# Altium integrated library Linear Technology Power Management Power Control.IntLib: 661 symbols (part 26 of 43)
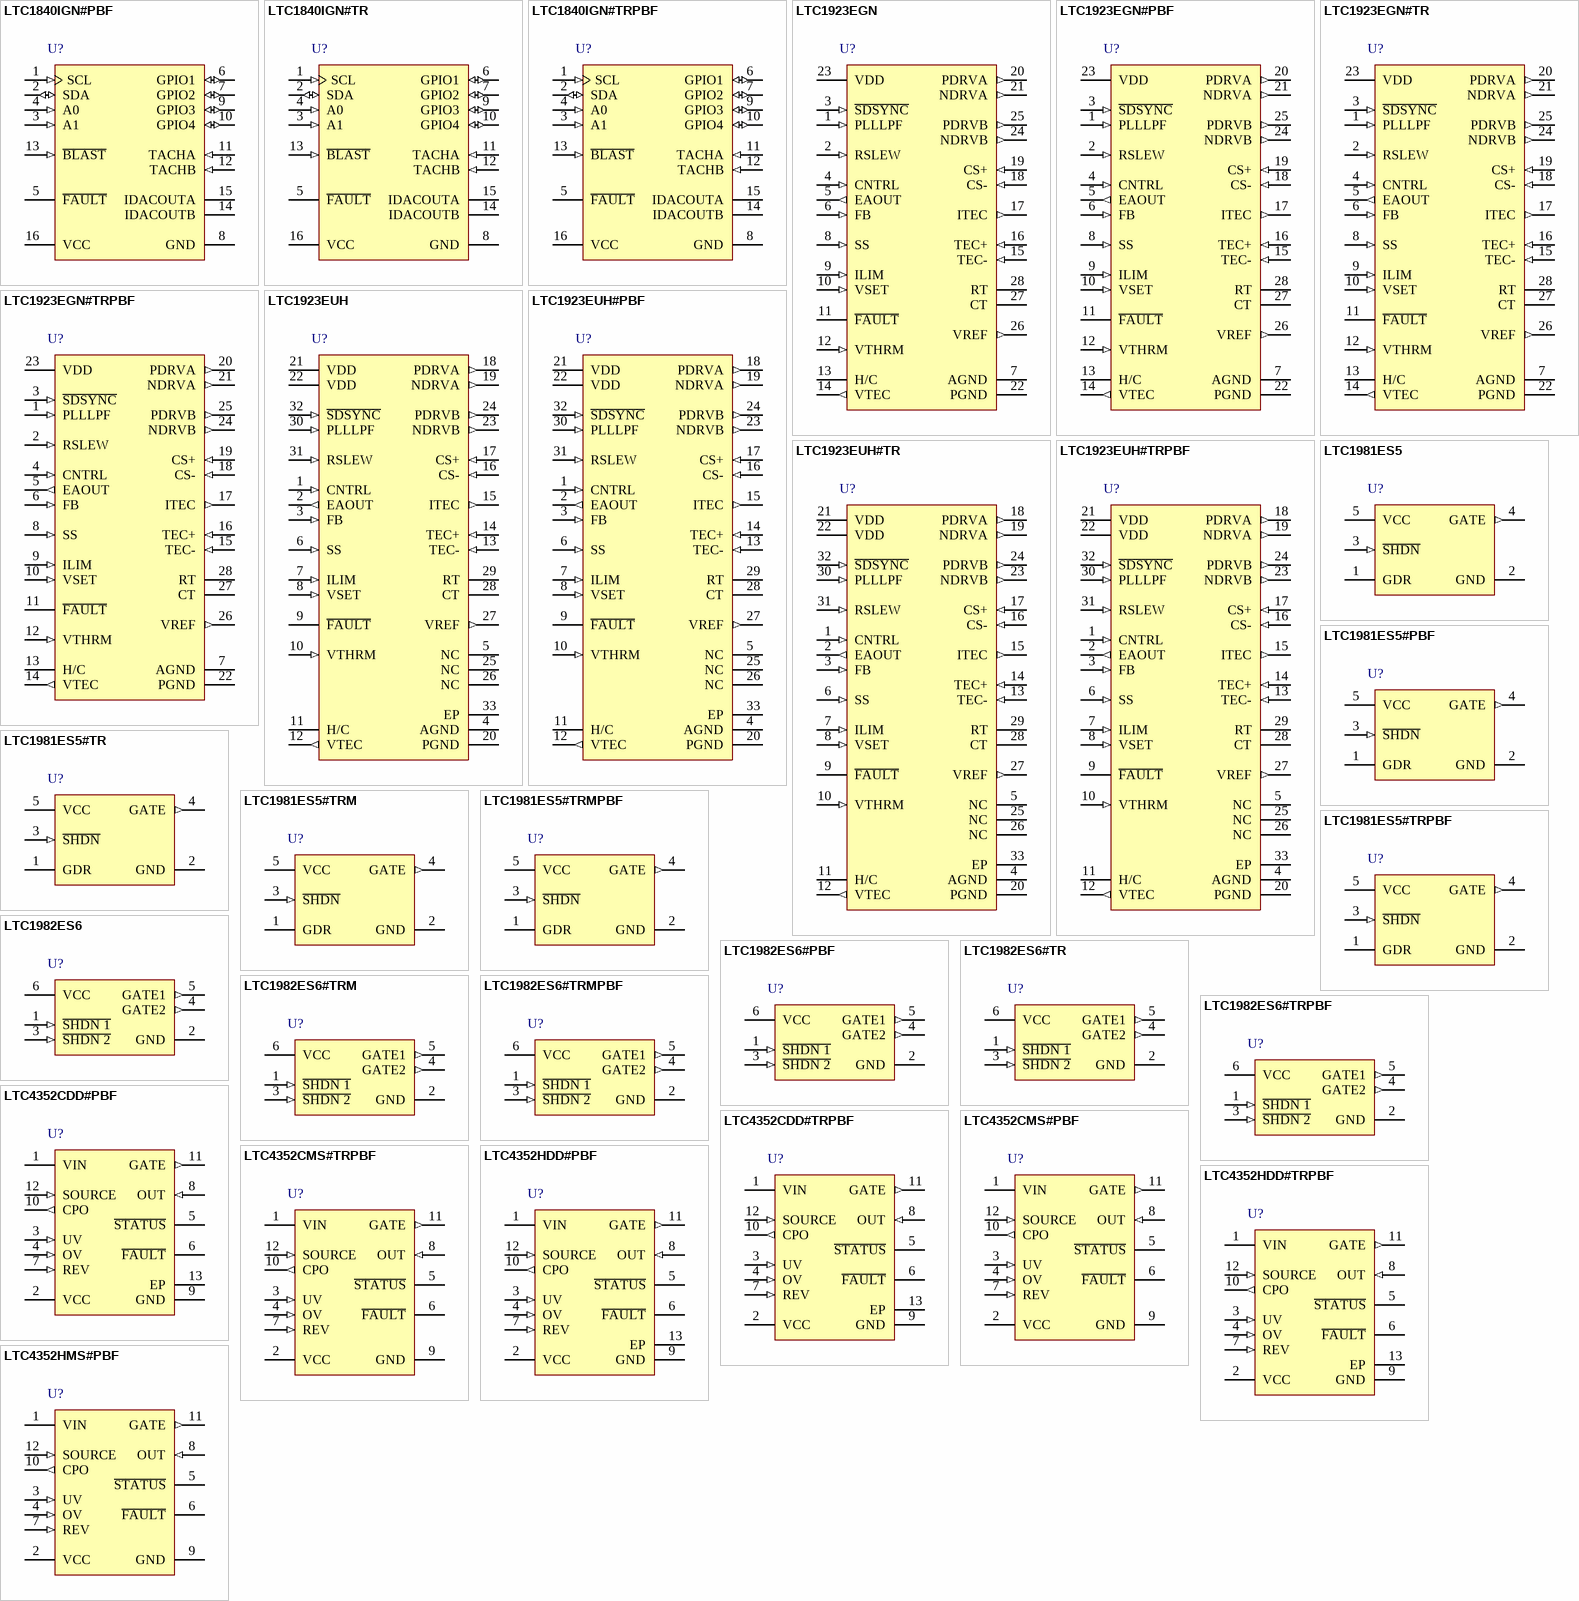
[diagram p44: symbols LTC1840IGN#PBF to LTC4352HMS#PBF]

## LTC1923EGN#TR
designator U?
High Efficiency, Low Noise Topology, 2.7 to 5.5 V Vin, 28-pin SOP (GN-28), -40 to 85 degC, Tape and Reel; Manufacturer: Linear Technology; PartNumber: LTC1923EGN#TR; PackageVersion: Rev. B, 03/2012; PackageReference: GN-28; PackageDescription: 28-Pin Plastic SSOP, Body 9.9 x 3.9 mm, Pitch 0.635 mm; Supplier 1: Digi-Key; Supplier Part Number 1: LTC1923EGN#TR-ND; Packing: Tape and Reel; RoHS: FALSE; Mounting Technology: Surface Mount; ComponentLink1Description: Manufacturer URL; ComponentLink1URL: http://www.linear.com/; ComponentLink2Description: Datasheet; ComponentLink2URL: http://cds.linear.com/docs/en/datasheet/1923f.pdf; ComponentLink3Description: Package Specification; ComponentLink3URL: http://cds.linear.com/docs/en/packaging/05081641_B_GN28.pdf
footprint LT-GN-28_N (SOP, 28-Leads, Body 9.98x3.98mm, Pitch 0.635mm, IPC Medium Density)
footprint LT-GN-28_L (SOP, 28-Leads, Body 9.98x3.98mm, Pitch 0.635mm, IPC High Density)
footprint LT-GN-28_M (SOP, 28-Leads, Body 9.98x3.98mm, Pitch 0.635mm, IPC Low Density)
pins: 1 PLLLPF (in) "This pin serves as the lowpass filter for the phase-locked loop when the part is being synchronized. The average voltage on this pin equally alters both the oscillator charge and discharge currents, thereby changing the (See Datasheet)", 2 RSLEW (in) "Placing a resistor from this pin to AGND sets the voltage slew rate of the output driver pins. The minimum resistor value is 10k and the maximum value is 300k. Slew rate limiting can be disabled by tying this pin to VDD, (See Datasheet)", 3 ~{SDSYNC} (in) "This pin can be used to disable the IC, synchronize the internal oscillator or be the master to synchronize other devices. Grounding this pin will disable all internal circuitry and cause NDRVA and NDRVB to be forced low and (See Datasheet)", 4 CNTRL (in) "Noninverting Input to the Error Amplifier.", 5 EAOUT (out) "Output of the Error Amplifier. The loop compensation network is connected between this pin and FB. The voltage on this pin is the input to the PWM comparator and commands anywhere between 0% and 100% duty cycle to control (See Datasheet)", 6 FB (in) "The Inverting Input to the Error Amplifier. This input is connected to EAOUT through a compensating feedback network.", 7 AGND (power) "Signal Ground. All voltages are measured with respect to AGND. Bypass VDD and VREF with low ESR capacitors to the ground plane near this pin", 8 SS (in) "The TEC current can be soft-started by adding a capacitor from this pin to ground. This capacitor will be charged by a 1.5 uA current source. This pin connects to one of the inverting inputs of the current limit comparator (See Datasheet)", 9 ILIM (in) "A voltage divider from VREF to this pin sets the current limit threshold for the TEC. If the voltage on this pin is set higher than 1V, then ILIMIT = 150mV/RS as that is the internal current limit comparator level. If the (See Datasheet)", 10 VSET (in) "This is the input for the setpoint reference of the temperature sense element divider network or bridge. This pin must be connected to the bias source for the thermistor divider network", 11 ~{FAULT} (oc) "Open-drain output that indicates by pulling low when the voltage on VTHRM is outside the specified window, the part is in shutdown, undervoltage lockout (UVLO), or the reference is not good. When the voltage on VTHRM is (See Datasheet)", 12 VTHRM (in) "Voltage Across the Thermistor. If the voltage on this pin is outside the range between 410mV below VSET and 0.2 • VSET, the F\A\U\L\T\ pin will be asserted (and latched) low indicating that the thermistor temperature ha(See Datasheet)", 13 H/C (oc) "This open-drain output provides the direction information of the TEC current flow. If TEC+ is greater than TEC-, which typically corresponds to the system cooling, this output will be a logic low. If the opposite is the (See Datasheet)", 14 VTEC (out) "Output of the differential TEC voltage amplifier equal to the magnitude of the voltage across the TEC.", 15 TEC- (in) "Inverting Input to the Differential TEC Voltage Amplifier. This amplifier has a fixed gain of 1 with its output being the voltage across the TEC with respect to AGND. This input, along with TEC+, signifies whether the TEC is (See Datasheet)", 16 TEC+ (in) "Noninverting Input to the Differential TEC Voltage Amplifier.", 17 ITEC (out) "Output of the Differential Current Sense Amplifier. The voltage on this pin is equal to 10 • (ITEC + IRIPPLE) • RS, where ITEC is the thermoelectric cooler current, IRIPPLE is the inductor ripple current and RS is (See Datasheet)", 18 CS- (in) "Inverting Input to the Differential Current Sense Amplifier.", 19 CS+ (in) "Noninverting Input of the Differential Current Sense Amplifier. The amplifier has a fixed gain of 10.", 20 PDRVA (out) "These pushpull outputs are configured to drive the opposite high side PMOS switches in a full-bridge arrangement.", 21 NDRVA (out) "These pushpull outputs are configured to drive the opposite low side switches in a full-bridge arrangement.", 22 PGND (power) "This is the high current ground for the IC. The external current sense resistor should be referenced to this point.", 23 VDD (power) "Positive Supply Rail for the IC. Bypass this pin to PGND and AGND with >10uF low ESL, ESR ceramic capacitors. The turn on voltage level for VDD is 2.6V with 130mV of hysteresis.", 24 NDRVB (out) "These pushpull outputs are configured to drive the opposite low side switches in a full-bridge arrangement.", 25 PDRVB (out) "These pushpull outputs are configured to drive the opposite high side PMOS switches in a full-bridge arrangement.", 26 VREF (out) "This is the output of the Reference. This pin should be bypassed to GND with a 1uF ceramic capacitor. The reference is able to supply a minimum of 10mA of current and is internally short-circuit current limited", 27 CT "The triangular wave oscillator timing capacitor pin is used in conjunction with RT to set the oscillator frequency.", 28 RT "A single resistor from RT to AGND sets the charging and discharging currents for the triangle oscillator. This pin also sets the dead time between turning one set of outputs off and turning the other set on to ensure the (See Datasheet)"

## LTC1923EGN#TRPBF
designator U?
High Efficiency, Low Noise Topology, 2.7 to 5.5 V Vin, 28-pin SOP (GN-28), -40 to 85 degC, Pb-Free, Tape and Reel; Manufacturer: Linear Technology; PartNumber: LTC1923EGN#TRPBF; PackageVersion: Rev. B, 03/2012; PackageReference: GN-28; PackageDescription: 28-Pin Plastic SSOP, Body 9.9 x 3.9 mm, Pitch 0.635 mm; Supplier 1: Digi-Key; Supplier Part Number 1: LTC1923EGN#TRPBF-ND; Packing: Tape and Reel; RoHS: TRUE; Mounting Technology: Surface Mount; ComponentLink1Description: Manufacturer URL; ComponentLink1URL: http://www.linear.com/; ComponentLink2Description: Datasheet; ComponentLink2URL: http://cds.linear.com/docs/en/datasheet/1923f.pdf; ComponentLink3Description: Package Specification; ComponentLink3URL: http://cds.linear.com/docs/en/packaging/05081641_B_GN28.pdf
footprint LT-GN-28_N (SOP, 28-Leads, Body 9.98x3.98mm, Pitch 0.635mm, IPC Medium Density)
footprint LT-GN-28_L (SOP, 28-Leads, Body 9.98x3.98mm, Pitch 0.635mm, IPC High Density)
footprint LT-GN-28_M (SOP, 28-Leads, Body 9.98x3.98mm, Pitch 0.635mm, IPC Low Density)
pins: 1 PLLLPF (in) "This pin serves as the lowpass filter for the phase-locked loop when the part is being synchronized. The average voltage on this pin equally alters both the oscillator charge and discharge currents, thereby changing the (See Datasheet)", 2 RSLEW (in) "Placing a resistor from this pin to AGND sets the voltage slew rate of the output driver pins. The minimum resistor value is 10k and the maximum value is 300k. Slew rate limiting can be disabled by tying this pin to VDD, (See Datasheet)", 3 ~{SDSYNC} (in) "This pin can be used to disable the IC, synchronize the internal oscillator or be the master to synchronize other devices. Grounding this pin will disable all internal circuitry and cause NDRVA and NDRVB to be forced low and (See Datasheet)", 4 CNTRL (in) "Noninverting Input to the Error Amplifier.", 5 EAOUT (out) "Output of the Error Amplifier. The loop compensation network is connected between this pin and FB. The voltage on this pin is the input to the PWM comparator and commands anywhere between 0% and 100% duty cycle to control (See Datasheet)", 6 FB (in) "The Inverting Input to the Error Amplifier. This input is connected to EAOUT through a compensating feedback network.", 7 AGND (power) "Signal Ground. All voltages are measured with respect to AGND. Bypass VDD and VREF with low ESR capacitors to the ground plane near this pin", 8 SS (in) "The TEC current can be soft-started by adding a capacitor from this pin to ground. This capacitor will be charged by a 1.5 uA current source. This pin connects to one of the inverting inputs of the current limit comparator (See Datasheet)", 9 ILIM (in) "A voltage divider from VREF to this pin sets the current limit threshold for the TEC. If the voltage on this pin is set higher than 1V, then ILIMIT = 150mV/RS as that is the internal current limit comparator level. If the (See Datasheet)", 10 VSET (in) "This is the input for the setpoint reference of the temperature sense element divider network or bridge. This pin must be connected to the bias source for the thermistor divider network", 11 ~{FAULT} (oc) "Open-drain output that indicates by pulling low when the voltage on VTHRM is outside the specified window, the part is in shutdown, undervoltage lockout (UVLO), or the reference is not good. When the voltage on VTHRM is (See Datasheet)", 12 VTHRM (in) "Voltage Across the Thermistor. If the voltage on this pin is outside the range between 410mV below VSET and 0.2 • VSET, the F\A\U\L\T\ pin will be asserted (and latched) low indicating that the thermistor temperature ha(See Datasheet)", 13 H/C (oc) "This open-drain output provides the direction information of the TEC current flow. If TEC+ is greater than TEC-, which typically corresponds to the system cooling, this output will be a logic low. If the opposite is the (See Datasheet)", 14 VTEC (out) "Output of the differential TEC voltage amplifier equal to the magnitude of the voltage across the TEC.", 15 TEC- (in) "Inverting Input to the Differential TEC Voltage Amplifier. This amplifier has a fixed gain of 1 with its output being the voltage across the TEC with respect to AGND. This input, along with TEC+, signifies whether the TEC is (See Datasheet)", 16 TEC+ (in) "Noninverting Input to the Differential TEC Voltage Amplifier.", 17 ITEC (out) "Output of the Differential Current Sense Amplifier. The voltage on this pin is equal to 10 • (ITEC + IRIPPLE) • RS, where ITEC is the thermoelectric cooler current, IRIPPLE is the inductor ripple current and RS is (See Datasheet)", 18 CS- (in) "Inverting Input to the Differential Current Sense Amplifier.", 19 CS+ (in) "Noninverting Input of the Differential Current Sense Amplifier. The amplifier has a fixed gain of 10.", 20 PDRVA (out) "These pushpull outputs are configured to drive the opposite high side PMOS switches in a full-bridge arrangement.", 21 NDRVA (out) "These pushpull outputs are configured to drive the opposite low side switches in a full-bridge arrangement.", 22 PGND (power) "This is the high current ground for the IC. The external current sense resistor should be referenced to this point.", 23 VDD (power) "Positive Supply Rail for the IC. Bypass this pin to PGND and AGND with >10uF low ESL, ESR ceramic capacitors. The turn on voltage level for VDD is 2.6V with 130mV of hysteresis.", 24 NDRVB (out) "These pushpull outputs are configured to drive the opposite low side switches in a full-bridge arrangement.", 25 PDRVB (out) "These pushpull outputs are configured to drive the opposite high side PMOS switches in a full-bridge arrangement.", 26 VREF (out) "This is the output of the Reference. This pin should be bypassed to GND with a 1uF ceramic capacitor. The reference is able to supply a minimum of 10mA of current and is internally short-circuit current limited", 27 CT "The triangular wave oscillator timing capacitor pin is used in conjunction with RT to set the oscillator frequency.", 28 RT "A single resistor from RT to AGND sets the charging and discharging currents for the triangle oscillator. This pin also sets the dead time between turning one set of outputs off and turning the other set on to ensure the (See Datasheet)"

## LTC1923EUH
designator U?
High Efficiency, Low Noise Topology, 2.7 to 5.5 V Vin, 32-pin QFN (UH-32), -40 to 85 degC; Manufacturer: Linear Technology; PartNumber: LTC1923EUH; PackageVersion: Rev. D, 06/2010; PackageReference: UH-32; PackageDescription: 32-Pin Plastic QFN, Body 5 x 5 mm, Pitch 0.5 mm; Supplier 1: Digi-Key; Supplier Part Number 1: LTC1923EUH-ND; RoHS: FALSE; Mounting Technology: Surface Mount; Code_JEDEC: MO-220; ComponentLink1Description: Manufacturer URL; ComponentLink1URL: http://www.linear.com/; ComponentLink2Description: Datasheet; ComponentLink2URL: http://cds.linear.com/docs/en/datasheet/1923f.pdf; ComponentLink3Description: Package Specification; ComponentLink3URL: http://cds.linear.com/docs/en/packaging/QFN_32_05-08-1693.pdf
footprint LT-UH-32_N (QFN, 32-Leads, Body 5.1x5.1mm, Pitch 0.5mm, Thermal Pad 3.45X3.45mm, IPC Medium Density)
footprint LT-UH-32_L (QFN, 32-Leads, Body 5.1x5.1mm, Pitch 0.5mm, Thermal Pad 3.45X3.45mm, IPC High Density)
footprint LT-UH-32_M (QFN, 32-Leads, Body 5.1x5.1mm, Pitch 0.5mm, Thermal Pad 3.45X3.45mm, IPC Low Density)
pins: 1 CNTRL (in) "Noninverting Input to the Error Amplifier.", 2 EAOUT (out) "Output of the Error Amplifier. The loop compensation network is connected between this pin and FB. The voltage on this pin is the input to the PWM comparator and commands anywhere between 0% and 100% duty cycle to control (See Datasheet)", 3 FB (in) "The Inverting Input to the Error Amplifier. This input is connected to EAOUT through a compensating feedback network.", 4 AGND (power) "Signal Ground. All voltages are measured with respect to AGND. Bypass VDD and VREF with low ESR capacitors to the ground plane near this pin.", 5 NC, 6 SS (in) "The TEC current can be soft-started by adding a capacitor from this pin to ground. This capacitor will be charged by a 1.5 uA current source. This pin connects to one of the inverting inputs of the current limit compara- tor (See Datasheet)", 7 ILIM (in) "A voltage divider from VREF to this pin sets the current limit threshold for the TEC. If the voltage on this pin is set higher than 1 V, then I LIMIT = 150 mV/R S as that is the internal current limit comparator level.", 8 VSET (in) "This is the input for the setpoint reference of the temperature sense element divider net- work or bridge. This pin must be connected to the bias source for the thermistor divider network.", 9 ~{FAULT} (oc) "Open-drain output that indicates by pulling low when the voltage on VTHRM is outside the specified window, the part is in shutdown, undervoltage lockout (UVLO), or the reference is not good. When the voltage on VTHRM is (See Datasheet)", 10 VTHRM (in) "Voltage Across the Thermistor. If the voltage on this pin is outside the range between 410 mV below VSET and 0.2 • VSET , the F\A\U\L\T\ pin will be asserted (and latched) low indicating that the thermistor temperature ha(See Datasheet)", 11 H/C (oc) "This open-drain output provides the direction information of the TEC current flow. If TEC+ is greater than TEC- , which typically corresponds to the system cooling, this output will be a logic low. If the opposite is the (See Datasheet)", 12 VTEC (out) "Output of the differential TEC voltage amplifier equal to the magnitude of the voltage across the TEC.", 13 TEC- (in) "Inverting Input to the Differential TEC Voltage Amplifier. This amplifier has a fixed gain of 1 with its output being the voltage across the TEC with respect to AGND. This input, along with TEC+ , signifies whether the TEC (See Datasheet)", 14 TEC+ (in) "Noninverting Input to the Differen- tial TEC Voltage Amplifier.", 15 ITEC (out) "Output of the Differential Current Sense Amplifier.", 16 CS- (in) "Inverting Input to the Differential Current Sense Amplifier.", 17 CS+ (in) "Noninverting Input of the Differential Current Sense Amplifier. The amplifier has a fixed gain of 10.", 18 PDRVA (out) "These push- pull outputs are configured to drive the opposite high side PMOS switches in a full-bridge arrangement.", 19 NDRVA (out) "These push- pull outputs are configured to drive the opposite low side switches in a full-bridge arrangement.", 20 PGND (power) "This is the high current ground for the IC. The external current sense resistor should be referenced to this point.", 21 VDD (power) "Positive Supply Rail for the IC. Bypass this pin to PGND and AGND with >10 uF low ESL, ESR ceramic capacitors. The turn on voltage level for VDD is 2.6 V with 130 mV of hysteresis.", 22 VDD (power) "Positive Supply Rail for the IC. Bypass this pin to PGND and AGND with >10 uF low ESL, ESR ceramic capacitors. The turn on voltage level for VDD is 2.6 V with 130 mV of hysteresis.", 23 NDRVB (out) "These push- pull outputs are configured to drive the opposite low side switches in a full-bridge arrangement.", 24 PDRVB (out) "These push- pull outputs are configured to drive the opposite high side PMOS switches in a full-bridge arrangement.", 25 NC, 26 NC, 27 VREF (out) "This is the output of the Reference. This pin should be bypassed to GND with a 1 uF ceramic capacitor. The reference is able to supply a minimum of 10 mA of current and is internally short-circuit current limited.", 28 CT "The triangular wave oscillator timing capacitor pin is used in conjunction with R T to set the oscillator frequency.", 29 RT "A single resistor from RT to AGND sets the charging and discharging currents for the triangle oscillator. This pin also sets the dead time between turning one set of outputs off and turning the other set on to ensure the (See Datasheet)", 30 PLLLPF (in) "This pin serves as the lowpass filter for the phase-locked loop when the part is being synchronized.", 31 RSLEW (in) "Placing a resistor from this pin to AGND sets the voltage slew rate of the output driver pins. The minimum resistor value is 10 k and the maximum value is 300 k. Slew rate limiting can be disabled by tying this pin to VDD , (See Datasheet)", 32 ~{SDSYNC} (in) "This pin can be used to disable the IC, synchronize the internal oscillator or be the master to synchronize other devices. Grounding this pin will disable all internal circuitry and cause NDRVA and NDRVB to be forced low and (See Datasheet)", 33 EP (power)

## LTC1923EUH#PBF
designator U?
High Efficiency, Low Noise Topology, 2.7 to 5.5 V Vin, 32-pin QFN (UH-32), -40 to 85 degC, Pb-Free; Manufacturer: Linear Technology; PartNumber: LTC1923EUH#PBF; PackageVersion: Rev. D, 06/2010; PackageReference: UH-32; PackageDescription: 32-Pin Plastic QFN, Body 5 x 5 mm, Pitch 0.5 mm; Supplier 1: Digi-Key; Supplier Part Number 1: LTC1923EUH#PBF-ND; Supplier 2: Farnell; Supplier Part Number 2: 2295517; Supplier 3: Newark; Supplier Part Number 3: 56M4352; RoHS: TRUE; Mounting Technology: Surface Mount; Code_JEDEC: MO-220; ComponentLink1Description: Manufacturer URL; ComponentLink1URL: http://www.linear.com/; ComponentLink2Description: Datasheet; ComponentLink2URL: http://cds.linear.com/docs/en/datasheet/1923f.pdf; ComponentLink3Description: Package Specification; ComponentLink3URL: http://cds.linear.com/docs/en/packaging/QFN_32_05-08-1693.pdf
footprint LT-UH-32_N (QFN, 32-Leads, Body 5.1x5.1mm, Pitch 0.5mm, Thermal Pad 3.45X3.45mm, IPC Medium Density)
footprint LT-UH-32_L (QFN, 32-Leads, Body 5.1x5.1mm, Pitch 0.5mm, Thermal Pad 3.45X3.45mm, IPC High Density)
footprint LT-UH-32_M (QFN, 32-Leads, Body 5.1x5.1mm, Pitch 0.5mm, Thermal Pad 3.45X3.45mm, IPC Low Density)
pins: 1 CNTRL (in) "Noninverting Input to the Error Amplifier.", 2 EAOUT (out) "Output of the Error Amplifier. The loop compensation network is connected between this pin and FB. The voltage on this pin is the input to the PWM comparator and commands anywhere between 0% and 100% duty cycle to control (See Datasheet)", 3 FB (in) "The Inverting Input to the Error Amplifier. This input is connected to EAOUT through a compensating feedback network.", 4 AGND (power) "Signal Ground. All voltages are measured with respect to AGND. Bypass VDD and VREF with low ESR capacitors to the ground plane near this pin.", 5 NC, 6 SS (in) "The TEC current can be soft-started by adding a capacitor from this pin to ground. This capacitor will be charged by a 1.5 uA current source. This pin connects to one of the inverting inputs of the current limit compara- tor (See Datasheet)", 7 ILIM (in) "A voltage divider from VREF to this pin sets the current limit threshold for the TEC. If the voltage on this pin is set higher than 1 V, then I LIMIT = 150 mV/R S as that is the internal current limit comparator level.", 8 VSET (in) "This is the input for the setpoint reference of the temperature sense element divider net- work or bridge. This pin must be connected to the bias source for the thermistor divider network.", 9 ~{FAULT} (oc) "Open-drain output that indicates by pulling low when the voltage on VTHRM is outside the specified window, the part is in shutdown, undervoltage lockout (UVLO), or the reference is not good. When the voltage on VTHRM is (See Datasheet)", 10 VTHRM (in) "Voltage Across the Thermistor. If the voltage on this pin is outside the range between 410 mV below VSET and 0.2 • VSET , the F\A\U\L\T\ pin will be asserted (and latched) low indicating that the thermistor temperature ha(See Datasheet)", 11 H/C (oc) "This open-drain output provides the direction information of the TEC current flow. If TEC+ is greater than TEC- , which typically corresponds to the system cooling, this output will be a logic low. If the opposite is the (See Datasheet)", 12 VTEC (out) "Output of the differential TEC voltage amplifier equal to the magnitude of the voltage across the TEC.", 13 TEC- (in) "Inverting Input to the Differential TEC Voltage Amplifier. This amplifier has a fixed gain of 1 with its output being the voltage across the TEC with respect to AGND. This input, along with TEC+ , signifies whether the TEC (See Datasheet)", 14 TEC+ (in) "Noninverting Input to the Differen- tial TEC Voltage Amplifier.", 15 ITEC (out) "Output of the Differential Current Sense Amplifier.", 16 CS- (in) "Inverting Input to the Differential Current Sense Amplifier.", 17 CS+ (in) "Noninverting Input of the Differential Current Sense Amplifier. The amplifier has a fixed gain of 10.", 18 PDRVA (out) "These push- pull outputs are configured to drive the opposite high side PMOS switches in a full-bridge arrangement.", 19 NDRVA (out) "These push- pull outputs are configured to drive the opposite low side switches in a full-bridge arrangement.", 20 PGND (power) "This is the high current ground for the IC. The external current sense resistor should be referenced to this point.", 21 VDD (power) "Positive Supply Rail for the IC. Bypass this pin to PGND and AGND with >10 uF low ESL, ESR ceramic capacitors. The turn on voltage level for VDD is 2.6 V with 130 mV of hysteresis.", 22 VDD (power) "Positive Supply Rail for the IC. Bypass this pin to PGND and AGND with >10 uF low ESL, ESR ceramic capacitors. The turn on voltage level for VDD is 2.6 V with 130 mV of hysteresis.", 23 NDRVB (out) "These push- pull outputs are configured to drive the opposite low side switches in a full-bridge arrangement.", 24 PDRVB (out) "These push- pull outputs are configured to drive the opposite high side PMOS switches in a full-bridge arrangement.", 25 NC, 26 NC, 27 VREF (out) "This is the output of the Reference. This pin should be bypassed to GND with a 1 uF ceramic capacitor. The reference is able to supply a minimum of 10 mA of current and is internally short-circuit current limited.", 28 CT "The triangular wave oscillator timing capacitor pin is used in conjunction with R T to set the oscillator frequency.", 29 RT "A single resistor from RT to AGND sets the charging and discharging currents for the triangle oscillator. This pin also sets the dead time between turning one set of outputs off and turning the other set on to ensure the (See Datasheet)", 30 PLLLPF (in) "This pin serves as the lowpass filter for the phase-locked loop when the part is being synchronized.", 31 RSLEW (in) "Placing a resistor from this pin to AGND sets the voltage slew rate of the output driver pins. The minimum resistor value is 10 k and the maximum value is 300 k. Slew rate limiting can be disabled by tying this pin to VDD , (See Datasheet)", 32 ~{SDSYNC} (in) "This pin can be used to disable the IC, synchronize the internal oscillator or be the master to synchronize other devices. Grounding this pin will disable all internal circuitry and cause NDRVA and NDRVB to be forced low and (See Datasheet)", 33 EP (power)

## LTC1923EUH#TR
designator U?
High Efficiency, Low Noise Topology, 2.7 to 5.5 V Vin, 32-pin QFN (UH-32), -40 to 85 degC, Tape and Reel; Manufacturer: Linear Technology; PartNumber: LTC1923EUH#TR; PackageVersion: Rev. D, 06/2010; PackageReference: UH-32; PackageDescription: 32-Pin Plastic QFN, Body 5 x 5 mm, Pitch 0.5 mm; Supplier 1: Digi-Key; Supplier Part Number 1: LTC1923EUHTR-ND; Packing: Tape and Reel; RoHS: FALSE; Mounting Technology: Surface Mount; Code_JEDEC: MO-220; ComponentLink1Description: Manufacturer URL; ComponentLink1URL: http://www.linear.com/; ComponentLink2Description: Datasheet; ComponentLink2URL: http://cds.linear.com/docs/en/datasheet/1923f.pdf; ComponentLink3Description: Package Specification; ComponentLink3URL: http://cds.linear.com/docs/en/packaging/QFN_32_05-08-1693.pdf
footprint LT-UH-32_N (QFN, 32-Leads, Body 5.1x5.1mm, Pitch 0.5mm, Thermal Pad 3.45X3.45mm, IPC Medium Density)
footprint LT-UH-32_L (QFN, 32-Leads, Body 5.1x5.1mm, Pitch 0.5mm, Thermal Pad 3.45X3.45mm, IPC High Density)
footprint LT-UH-32_M (QFN, 32-Leads, Body 5.1x5.1mm, Pitch 0.5mm, Thermal Pad 3.45X3.45mm, IPC Low Density)
pins: 1 CNTRL (in) "Noninverting Input to the Error Amplifier.", 2 EAOUT (out) "Output of the Error Amplifier. The loop compensation network is connected between this pin and FB. The voltage on this pin is the input to the PWM comparator and commands anywhere between 0% and 100% duty cycle to control (See Datasheet)", 3 FB (in) "The Inverting Input to the Error Amplifier. This input is connected to EAOUT through a compensating feedback network.", 4 AGND (power) "Signal Ground. All voltages are measured with respect to AGND. Bypass VDD and VREF with low ESR capacitors to the ground plane near this pin.", 5 NC, 6 SS (in) "The TEC current can be soft-started by adding a capacitor from this pin to ground. This capacitor will be charged by a 1.5 uA current source. This pin connects to one of the inverting inputs of the current limit compara- tor (See Datasheet)", 7 ILIM (in) "A voltage divider from VREF to this pin sets the current limit threshold for the TEC. If the voltage on this pin is set higher than 1 V, then I LIMIT = 150 mV/R S as that is the internal current limit comparator level.", 8 VSET (in) "This is the input for the setpoint reference of the temperature sense element divider net- work or bridge. This pin must be connected to the bias source for the thermistor divider network.", 9 ~{FAULT} (oc) "Open-drain output that indicates by pulling low when the voltage on VTHRM is outside the specified window, the part is in shutdown, undervoltage lockout (UVLO), or the reference is not good. When the voltage on VTHRM is (See Datasheet)", 10 VTHRM (in) "Voltage Across the Thermistor. If the voltage on this pin is outside the range between 410 mV below VSET and 0.2 • VSET , the F\A\U\L\T\ pin will be asserted (and latched) low indicating that the thermistor temperature ha(See Datasheet)", 11 H/C (oc) "This open-drain output provides the direction information of the TEC current flow. If TEC+ is greater than TEC- , which typically corresponds to the system cooling, this output will be a logic low. If the opposite is the (See Datasheet)", 12 VTEC (out) "Output of the differential TEC voltage amplifier equal to the magnitude of the voltage across the TEC.", 13 TEC- (in) "Inverting Input to the Differential TEC Voltage Amplifier. This amplifier has a fixed gain of 1 with its output being the voltage across the TEC with respect to AGND. This input, along with TEC+ , signifies whether the TEC (See Datasheet)", 14 TEC+ (in) "Noninverting Input to the Differen- tial TEC Voltage Amplifier.", 15 ITEC (out) "Output of the Differential Current Sense Amplifier.", 16 CS- (in) "Inverting Input to the Differential Current Sense Amplifier.", 17 CS+ (in) "Noninverting Input of the Differential Current Sense Amplifier. The amplifier has a fixed gain of 10.", 18 PDRVA (out) "These push- pull outputs are configured to drive the opposite high side PMOS switches in a full-bridge arrangement.", 19 NDRVA (out) "These push- pull outputs are configured to drive the opposite low side switches in a full-bridge arrangement.", 20 PGND (power) "This is the high current ground for the IC. The external current sense resistor should be referenced to this point.", 21 VDD (power) "Positive Supply Rail for the IC. Bypass this pin to PGND and AGND with >10 uF low ESL, ESR ceramic capacitors. The turn on voltage level for VDD is 2.6 V with 130 mV of hysteresis.", 22 VDD (power) "Positive Supply Rail for the IC. Bypass this pin to PGND and AGND with >10 uF low ESL, ESR ceramic capacitors. The turn on voltage level for VDD is 2.6 V with 130 mV of hysteresis.", 23 NDRVB (out) "These push- pull outputs are configured to drive the opposite low side switches in a full-bridge arrangement.", 24 PDRVB (out) "These push- pull outputs are configured to drive the opposite high side PMOS switches in a full-bridge arrangement.", 25 NC, 26 NC, 27 VREF (out) "This is the output of the Reference. This pin should be bypassed to GND with a 1 uF ceramic capacitor. The reference is able to supply a minimum of 10 mA of current and is internally short-circuit current limited.", 28 CT "The triangular wave oscillator timing capacitor pin is used in conjunction with R T to set the oscillator frequency.", 29 RT "A single resistor from RT to AGND sets the charging and discharging currents for the triangle oscillator. This pin also sets the dead time between turning one set of outputs off and turning the other set on to ensure the (See Datasheet)", 30 PLLLPF (in) "This pin serves as the lowpass filter for the phase-locked loop when the part is being synchronized.", 31 RSLEW (in) "Placing a resistor from this pin to AGND sets the voltage slew rate of the output driver pins. The minimum resistor value is 10 k and the maximum value is 300 k. Slew rate limiting can be disabled by tying this pin to VDD , (See Datasheet)", 32 ~{SDSYNC} (in) "This pin can be used to disable the IC, synchronize the internal oscillator or be the master to synchronize other devices. Grounding this pin will disable all internal circuitry and cause NDRVA and NDRVB to be forced low and (See Datasheet)", 33 EP (power)

## LTC1923EUH#TRPBF
designator U?
High Efficiency, Low Noise Topology, 2.7 to 5.5 V Vin, 32-pin QFN (UH-32), -40 to 85 degC, Pb-Free, Tape and Reel; Manufacturer: Linear Technology; PartNumber: LTC1923EUH#TRPBF; PackageVersion: Rev. D, 06/2010; PackageReference: UH-32; PackageDescription: 32-Pin Plastic QFN, Body 5 x 5 mm, Pitch 0.5 mm; Supplier 1: Digi-Key; Supplier Part Number 1: LTC1923EUH#TRPBF-ND; Packing: Tape and Reel; RoHS: TRUE; Mounting Technology: Surface Mount; Code_JEDEC: MO-220; ComponentLink1Description: Manufacturer URL; ComponentLink1URL: http://www.linear.com/; ComponentLink2Description: Datasheet; ComponentLink2URL: http://cds.linear.com/docs/en/datasheet/1923f.pdf; ComponentLink3Description: Package Specification; ComponentLink3URL: http://cds.linear.com/docs/en/packaging/QFN_32_05-08-1693.pdf
footprint LT-UH-32_N (QFN, 32-Leads, Body 5.1x5.1mm, Pitch 0.5mm, Thermal Pad 3.45X3.45mm, IPC Medium Density)
footprint LT-UH-32_L (QFN, 32-Leads, Body 5.1x5.1mm, Pitch 0.5mm, Thermal Pad 3.45X3.45mm, IPC High Density)
footprint LT-UH-32_M (QFN, 32-Leads, Body 5.1x5.1mm, Pitch 0.5mm, Thermal Pad 3.45X3.45mm, IPC Low Density)
pins: 1 CNTRL (in) "Noninverting Input to the Error Amplifier.", 2 EAOUT (out) "Output of the Error Amplifier. The loop compensation network is connected between this pin and FB. The voltage on this pin is the input to the PWM comparator and commands anywhere between 0% and 100% duty cycle to control (See Datasheet)", 3 FB (in) "The Inverting Input to the Error Amplifier. This input is connected to EAOUT through a compensating feedback network.", 4 AGND (power) "Signal Ground. All voltages are measured with respect to AGND. Bypass VDD and VREF with low ESR capacitors to the ground plane near this pin.", 5 NC, 6 SS (in) "The TEC current can be soft-started by adding a capacitor from this pin to ground. This capacitor will be charged by a 1.5 uA current source. This pin connects to one of the inverting inputs of the current limit compara- tor (See Datasheet)", 7 ILIM (in) "A voltage divider from VREF to this pin sets the current limit threshold for the TEC. If the voltage on this pin is set higher than 1 V, then I LIMIT = 150 mV/R S as that is the internal current limit comparator level.", 8 VSET (in) "This is the input for the setpoint reference of the temperature sense element divider net- work or bridge. This pin must be connected to the bias source for the thermistor divider network.", 9 ~{FAULT} (oc) "Open-drain output that indicates by pulling low when the voltage on VTHRM is outside the specified window, the part is in shutdown, undervoltage lockout (UVLO), or the reference is not good. When the voltage on VTHRM is (See Datasheet)", 10 VTHRM (in) "Voltage Across the Thermistor. If the voltage on this pin is outside the range between 410 mV below VSET and 0.2 • VSET , the F\A\U\L\T\ pin will be asserted (and latched) low indicating that the thermistor temperature ha(See Datasheet)", 11 H/C (oc) "This open-drain output provides the direction information of the TEC current flow. If TEC+ is greater than TEC- , which typically corresponds to the system cooling, this output will be a logic low. If the opposite is the (See Datasheet)", 12 VTEC (out) "Output of the differential TEC voltage amplifier equal to the magnitude of the voltage across the TEC.", 13 TEC- (in) "Inverting Input to the Differential TEC Voltage Amplifier. This amplifier has a fixed gain of 1 with its output being the voltage across the TEC with respect to AGND. This input, along with TEC+ , signifies whether the TEC (See Datasheet)", 14 TEC+ (in) "Noninverting Input to the Differen- tial TEC Voltage Amplifier.", 15 ITEC (out) "Output of the Differential Current Sense Amplifier.", 16 CS- (in) "Inverting Input to the Differential Current Sense Amplifier.", 17 CS+ (in) "Noninverting Input of the Differential Current Sense Amplifier. The amplifier has a fixed gain of 10.", 18 PDRVA (out) "These push- pull outputs are configured to drive the opposite high side PMOS switches in a full-bridge arrangement.", 19 NDRVA (out) "These push- pull outputs are configured to drive the opposite low side switches in a full-bridge arrangement.", 20 PGND (power) "This is the high current ground for the IC. The external current sense resistor should be referenced to this point.", 21 VDD (power) "Positive Supply Rail for the IC. Bypass this pin to PGND and AGND with >10 uF low ESL, ESR ceramic capacitors. The turn on voltage level for VDD is 2.6 V with 130 mV of hysteresis.", 22 VDD (power) "Positive Supply Rail for the IC. Bypass this pin to PGND and AGND with >10 uF low ESL, ESR ceramic capacitors. The turn on voltage level for VDD is 2.6 V with 130 mV of hysteresis.", 23 NDRVB (out) "These push- pull outputs are configured to drive the opposite low side switches in a full-bridge arrangement.", 24 PDRVB (out) "These push- pull outputs are configured to drive the opposite high side PMOS switches in a full-bridge arrangement.", 25 NC, 26 NC, 27 VREF (out) "This is the output of the Reference. This pin should be bypassed to GND with a 1 uF ceramic capacitor. The reference is able to supply a minimum of 10 mA of current and is internally short-circuit current limited.", 28 CT "The triangular wave oscillator timing capacitor pin is used in conjunction with R T to set the oscillator frequency.", 29 RT "A single resistor from RT to AGND sets the charging and discharging currents for the triangle oscillator. This pin also sets the dead time between turning one set of outputs off and turning the other set on to ensure the (See Datasheet)", 30 PLLLPF (in) "This pin serves as the lowpass filter for the phase-locked loop when the part is being synchronized.", 31 RSLEW (in) "Placing a resistor from this pin to AGND sets the voltage slew rate of the output driver pins. The minimum resistor value is 10 k and the maximum value is 300 k. Slew rate limiting can be disabled by tying this pin to VDD , (See Datasheet)", 32 ~{SDSYNC} (in) "This pin can be used to disable the IC, synchronize the internal oscillator or be the master to synchronize other devices. Grounding this pin will disable all internal circuitry and cause NDRVA and NDRVB to be forced low and (See Datasheet)", 33 EP (power)

## LTC1981ES5
designator U?
Single and Dual Micropower High Side Switch Controller, 1.8 to 5.5 V Vin, 5-pin SOT23 (S5-5), -40 to 85 degC; Manufacturer: Linear Technology; PartNumber: LTC1981ES5; PackageVersion: Aug-07; PackageReference: S5-5; PackageDescription: 5-Pin Plastic SOT-23, Body 1.625 x 2.90 mm, Pitch 0.95 mm; RoHS: FALSE; Mounting Technology: Surface Mount; ComponentLink1Description: Manufacturer URL; ComponentLink1URL: http://www.linear.com/; ComponentLink2Description: Datasheet; ComponentLink2URL: http://cds.linear.com/docs/en/datasheet/19812fs.pdf; ComponentLink3Description: Package Specification; ComponentLink3URL: http://cds.linear.com/docs/en/datasheet/17278fb.pdf
footprint LT-S5-5-SOT-23_N (SOT23, 5-Leads, Body 3x1.75mm, Pitch 0.95mm, IPC Medium Density)
footprint LT-S5-5-SOT-23_L (SOT23, 5-Leads, Body 3x1.75mm, Pitch 0.95mm, IPC High Density)
footprint LT-S5-5-SOT-23_M (SOT23, 5-Leads, Body 3x1.75mm, Pitch 0.95mm, IPC Low Density)
pins: 1 GDR (oc) "Gate Drive Ready Active High Open Drain Output. Used to indicate when the gate drive output is greater than 90% of its final value.", 2 GND (power) "Ground.", 3 ~{SHDN} (in) "S\H\D\N\ Active Low Input. Used to shut down the part and force the GATE output pin to ground.", 4 GATE (out) "Gate Drive Output to an External High Side Switch. Fully enhanced by internal charge pump. Controlled by the S\H\D\N\ input pin. Output voltage on this pin will be approximately 2.5 times VCC or 7.25V, whichever is less.", 5 VCC (power) "Input Supply Voltage. Range from 1.8V to 5.5V."

## LTC1981ES5#PBF
designator U?
Single and Dual Micropower High Side Switch Controller, 1.8 to 5.5 V Vin, 5-pin SOT23 (S5-5), -40 to 85 degC, Pb-Free; Manufacturer: Linear Technology; PartNumber: LTC1981ES5#PBF; PackageVersion: Aug-07; PackageReference: S5-5; PackageDescription: 5-Pin Plastic SOT-23, Body 1.625 x 2.90 mm, Pitch 0.95 mm; Supplier 1: Newark; Supplier Part Number 1: 69W6137; Supplier 2: Newark; Supplier Part Number 2: 34P0983; RoHS: TRUE; Mounting Technology: Surface Mount; ComponentLink1Description: Manufacturer URL; ComponentLink1URL: http://www.linear.com/; ComponentLink2Description: Datasheet; ComponentLink2URL: http://cds.linear.com/docs/en/datasheet/19812fs.pdf; ComponentLink3Description: Package Specification; ComponentLink3URL: http://cds.linear.com/docs/en/datasheet/17278fb.pdf
footprint LT-S5-5-SOT-23_N (SOT23, 5-Leads, Body 3x1.75mm, Pitch 0.95mm, IPC Medium Density)
footprint LT-S5-5-SOT-23_L (SOT23, 5-Leads, Body 3x1.75mm, Pitch 0.95mm, IPC High Density)
footprint LT-S5-5-SOT-23_M (SOT23, 5-Leads, Body 3x1.75mm, Pitch 0.95mm, IPC Low Density)
pins: 1 GDR (oc) "Gate Drive Ready Active High Open Drain Output. Used to indicate when the gate drive output is greater than 90% of its final value.", 2 GND (power) "Ground.", 3 ~{SHDN} (in) "S\H\D\N\ Active Low Input. Used to shut down the part and force the GATE output pin to ground.", 4 GATE (out) "Gate Drive Output to an External High Side Switch. Fully enhanced by internal charge pump. Controlled by the S\H\D\N\ input pin. Output voltage on this pin will be approximately 2.5 times VCC or 7.25V, whichever is less.", 5 VCC (power) "Input Supply Voltage. Range from 1.8V to 5.5V."

## LTC1981ES5#TR
designator U?
Single and Dual Micropower High Side Switch Controller, 1.8 to 5.5 V Vin, 5-pin SOT23 (S5-5), -40 to 85 degC, Tape and Reel; Manufacturer: Linear Technology; PartNumber: LTC1981ES5#TR; PackageVersion: Aug-07; PackageReference: S5-5; PackageDescription: 5-Pin Plastic SOT-23, Body 1.625 x 2.90 mm, Pitch 0.95 mm; Supplier 1: Digi-Key; Supplier Part Number 1: LTC1981ES5TR-ND; Supplier 2: Newark; Supplier Part Number 2: 56M4411; Packing: Tape and Reel; RoHS: FALSE; Mounting Technology: Surface Mount; ComponentLink1Description: Manufacturer URL; ComponentLink1URL: http://www.linear.com/; ComponentLink2Description: Datasheet; ComponentLink2URL: http://cds.linear.com/docs/en/datasheet/19812fs.pdf; ComponentLink3Description: Package Specification; ComponentLink3URL: http://cds.linear.com/docs/en/datasheet/17278fb.pdf
footprint LT-S5-5-SOT-23_N (SOT23, 5-Leads, Body 3x1.75mm, Pitch 0.95mm, IPC Medium Density)
footprint LT-S5-5-SOT-23_L (SOT23, 5-Leads, Body 3x1.75mm, Pitch 0.95mm, IPC High Density)
footprint LT-S5-5-SOT-23_M (SOT23, 5-Leads, Body 3x1.75mm, Pitch 0.95mm, IPC Low Density)
pins: 1 GDR (oc) "Gate Drive Ready Active High Open Drain Output. Used to indicate when the gate drive output is greater than 90% of its final value.", 2 GND (power) "Ground.", 3 ~{SHDN} (in) "S\H\D\N\ Active Low Input. Used to shut down the part and force the GATE output pin to ground.", 4 GATE (out) "Gate Drive Output to an External High Side Switch. Fully enhanced by internal charge pump. Controlled by the S\H\D\N\ input pin. Output voltage on this pin will be approximately 2.5 times VCC or 7.25V, whichever is less.", 5 VCC (power) "Input Supply Voltage. Range from 1.8V to 5.5V."

## LTC1981ES5#TRM
designator U?
Single and Dual Micropower High Side Switch Controller, 1.8 to 5.5 V Vin, 5-pin SOT23 (S5-5), -40 to 85 degC, Mini Tape and Reel; Manufacturer: Linear Technology; PartNumber: LTC1981ES5#TRM; PackageVersion: Aug-07; PackageReference: S5-5; PackageDescription: 5-Pin Plastic SOT-23, Body 1.625 x 2.90 mm, Pitch 0.95 mm; Supplier 1: Digi-Key; Supplier Part Number 1: LTC1981ES5#TRMCT-ND; Packing: Mini Tape and Reel; RoHS: FALSE; Mounting Technology: Surface Mount; ComponentLink1Description: Manufacturer URL; ComponentLink1URL: http://www.linear.com/; ComponentLink2Description: Datasheet; ComponentLink2URL: http://cds.linear.com/docs/en/datasheet/19812fs.pdf; ComponentLink3Description: Package Specification; ComponentLink3URL: http://cds.linear.com/docs/en/datasheet/17278fb.pdf
footprint LT-S5-5-SOT-23_N (SOT23, 5-Leads, Body 3x1.75mm, Pitch 0.95mm, IPC Medium Density)
footprint LT-S5-5-SOT-23_L (SOT23, 5-Leads, Body 3x1.75mm, Pitch 0.95mm, IPC High Density)
footprint LT-S5-5-SOT-23_M (SOT23, 5-Leads, Body 3x1.75mm, Pitch 0.95mm, IPC Low Density)
pins: 1 GDR (oc) "Gate Drive Ready Active High Open Drain Output. Used to indicate when the gate drive output is greater than 90% of its final value.", 2 GND (power) "Ground.", 3 ~{SHDN} (in) "S\H\D\N\ Active Low Input. Used to shut down the part and force the GATE output pin to ground.", 4 GATE (out) "Gate Drive Output to an External High Side Switch. Fully enhanced by internal charge pump. Controlled by the S\H\D\N\ input pin. Output voltage on this pin will be approximately 2.5 times VCC or 7.25V, whichever is less.", 5 VCC (power) "Input Supply Voltage. Range from 1.8V to 5.5V."

## LTC1981ES5#TRMPBF
designator U?
Single and Dual Micropower High Side Switch Controller, 1.8 to 5.5 V Vin, 5-pin SOT23 (S5-5), -40 to 85 degC, Pb-Free, Mini Tape and Reel; Manufacturer: Linear Technology; PartNumber: LTC1981ES5#TRMPBF; PackageVersion: Aug-07; PackageReference: S5-5; PackageDescription: 5-Pin Plastic SOT-23, Body 1.625 x 2.90 mm, Pitch 0.95 mm; Supplier 1: Digi-Key; Supplier Part Number 1: LTC1981ES5#TRMPBFTR-ND; Supplier 2: Digi-Key; Supplier Part Number 2: LTC1981ES5#TRMPBFCT-ND; Supplier 3: Digi-Key; Supplier Part Number 3: LTC1981ES5#TRMPBFDKR-ND; Supplier 4: Newark; Supplier Part Number 4: 56M4413; Packing: Mini Tape and Reel; RoHS: TRUE; Mounting Technology: Surface Mount; ComponentLink1Description: Manufacturer URL; ComponentLink1URL: http://www.linear.com/; ComponentLink2Description: Datasheet; ComponentLink2URL: http://cds.linear.com/docs/en/datasheet/19812fs.pdf; ComponentLink3Description: Package Specification; ComponentLink3URL: http://cds.linear.com/docs/en/datasheet/17278fb.pdf
footprint LT-S5-5-SOT-23_N (SOT23, 5-Leads, Body 3x1.75mm, Pitch 0.95mm, IPC Medium Density)
footprint LT-S5-5-SOT-23_L (SOT23, 5-Leads, Body 3x1.75mm, Pitch 0.95mm, IPC High Density)
footprint LT-S5-5-SOT-23_M (SOT23, 5-Leads, Body 3x1.75mm, Pitch 0.95mm, IPC Low Density)
pins: 1 GDR (oc) "Gate Drive Ready Active High Open Drain Output. Used to indicate when the gate drive output is greater than 90% of its final value.", 2 GND (power) "Ground.", 3 ~{SHDN} (in) "S\H\D\N\ Active Low Input. Used to shut down the part and force the GATE output pin to ground.", 4 GATE (out) "Gate Drive Output to an External High Side Switch. Fully enhanced by internal charge pump. Controlled by the S\H\D\N\ input pin. Output voltage on this pin will be approximately 2.5 times VCC or 7.25V, whichever is less.", 5 VCC (power) "Input Supply Voltage. Range from 1.8V to 5.5V."

## LTC1981ES5#TRPBF
designator U?
Single and Dual Micropower High Side Switch Controller, 1.8 to 5.5 V Vin, 5-pin SOT23 (S5-5), -40 to 85 degC, Pb-Free, Tape and Reel; Manufacturer: Linear Technology; PartNumber: LTC1981ES5#TRPBF; PackageVersion: Aug-07; PackageReference: S5-5; PackageDescription: 5-Pin Plastic SOT-23, Body 1.625 x 2.90 mm, Pitch 0.95 mm; Supplier 1: Digi-Key; Supplier Part Number 1: LTC1981ES5#TRPBF-ND; Supplier 2: Newark; Supplier Part Number 2: 56M4414; Packing: Tape and Reel; RoHS: TRUE; Mounting Technology: Surface Mount; ComponentLink1Description: Manufacturer URL; ComponentLink1URL: http://www.linear.com/; ComponentLink2Description: Datasheet; ComponentLink2URL: http://cds.linear.com/docs/en/datasheet/19812fs.pdf; ComponentLink3Description: Package Specification; ComponentLink3URL: http://cds.linear.com/docs/en/datasheet/17278fb.pdf
footprint LT-S5-5-SOT-23_N (SOT23, 5-Leads, Body 3x1.75mm, Pitch 0.95mm, IPC Medium Density)
footprint LT-S5-5-SOT-23_L (SOT23, 5-Leads, Body 3x1.75mm, Pitch 0.95mm, IPC High Density)
footprint LT-S5-5-SOT-23_M (SOT23, 5-Leads, Body 3x1.75mm, Pitch 0.95mm, IPC Low Density)
pins: 1 GDR (oc) "Gate Drive Ready Active High Open Drain Output. Used to indicate when the gate drive output is greater than 90% of its final value.", 2 GND (power) "Ground.", 3 ~{SHDN} (in) "S\H\D\N\ Active Low Input. Used to shut down the part and force the GATE output pin to ground.", 4 GATE (out) "Gate Drive Output to an External High Side Switch. Fully enhanced by internal charge pump. Controlled by the S\H\D\N\ input pin. Output voltage on this pin will be approximately 2.5 times VCC or 7.25V, whichever is less.", 5 VCC (power) "Input Supply Voltage. Range from 1.8V to 5.5V."

## LTC1982ES6
designator U?
Single and Dual Micropower High Side Switch Controller, 1.8 to 5.5 V Vin, 6-pin SOT23 (S6-6), -40 to 85 degC; Manufacturer: Linear Technology; PartNumber: LTC1982ES6; PackageVersion: Aug-07; PackageReference: S6-6; PackageDescription: 6-Pin Plastic SOT-23, Body 1.625 x 2.9 mm, Pitch 0.95 mm; RoHS: FALSE; Mounting Technology: Surface Mount; ComponentLink1Description: Manufacturer URL; ComponentLink1URL: http://www.linear.com/; ComponentLink2Description: Datasheet; ComponentLink2URL: http://cds.linear.com/docs/en/datasheet/19812fs.pdf; ComponentLink3Description: Package Specification; ComponentLink3URL: http://cds.linear.com/docs/en/datasheet/175435f.pdf
footprint LT-S6-6-SOT-23_N (SOT23, 6-Leads, Body 3x1.75mm, Pitch 0.95mm, IPC Medium Density)
footprint LT-S6-6-SOT-23_L (SOT23, 6-Leads, Body 3x1.75mm, Pitch 0.95mm, IPC High Density)
footprint LT-S6-6-SOT-23_M (SOT23, 6-Leads, Body 3x1.75mm, Pitch 0.95mm, IPC Low Density)
pins: 1 ~{SHDN 1} (in) "S\H\D\N\ \1\ Active Low Input. Used to shut down the GATE 1 charge pump and force the GATE 1 output pin to ground.", 2 GND (power) "Ground.", 3 ~{SHDN 2} (in) "S\H\D\N\ \2\ Active Low Input. Used to shut down the GATE 2 charge pump and force the GATE 2 output pin to ground", 4 GATE2 (out) "Gate Drive Output to an External High Side Switch. Fully enhanced by internal charge pump. Controlled by the S\H\D\N\ \2\ input pin. Output voltage on this pin will be approximately 2.5 times VCC or 7.25V, whichever is less", 5 GATE1 (out) "Gate Drive Output to an External High Side Switch. Fully enhanced by internal charge pump. Controlled by the S\H\D\N\ \1\ input pin. Output voltage on this pin will be approximately 2.5 times VCC or 7.25V, whichever is less.", 6 VCC (power) "Input Supply Voltage. Range from 1.8V to 5.5V."